# Altium footprint library Titan.PcbLib: 49 footprints (part 2 of 4)
Each footprint in its own frame and in the unit in brackets; x right, y up, seen from the top. Pads: shape width x height; smd on the part's side, far side on the other; paste and mask are expansions set on the pad; w line width, h text height; cw(c..) or ccw(c..) is an arc to the next point about the centre after c.
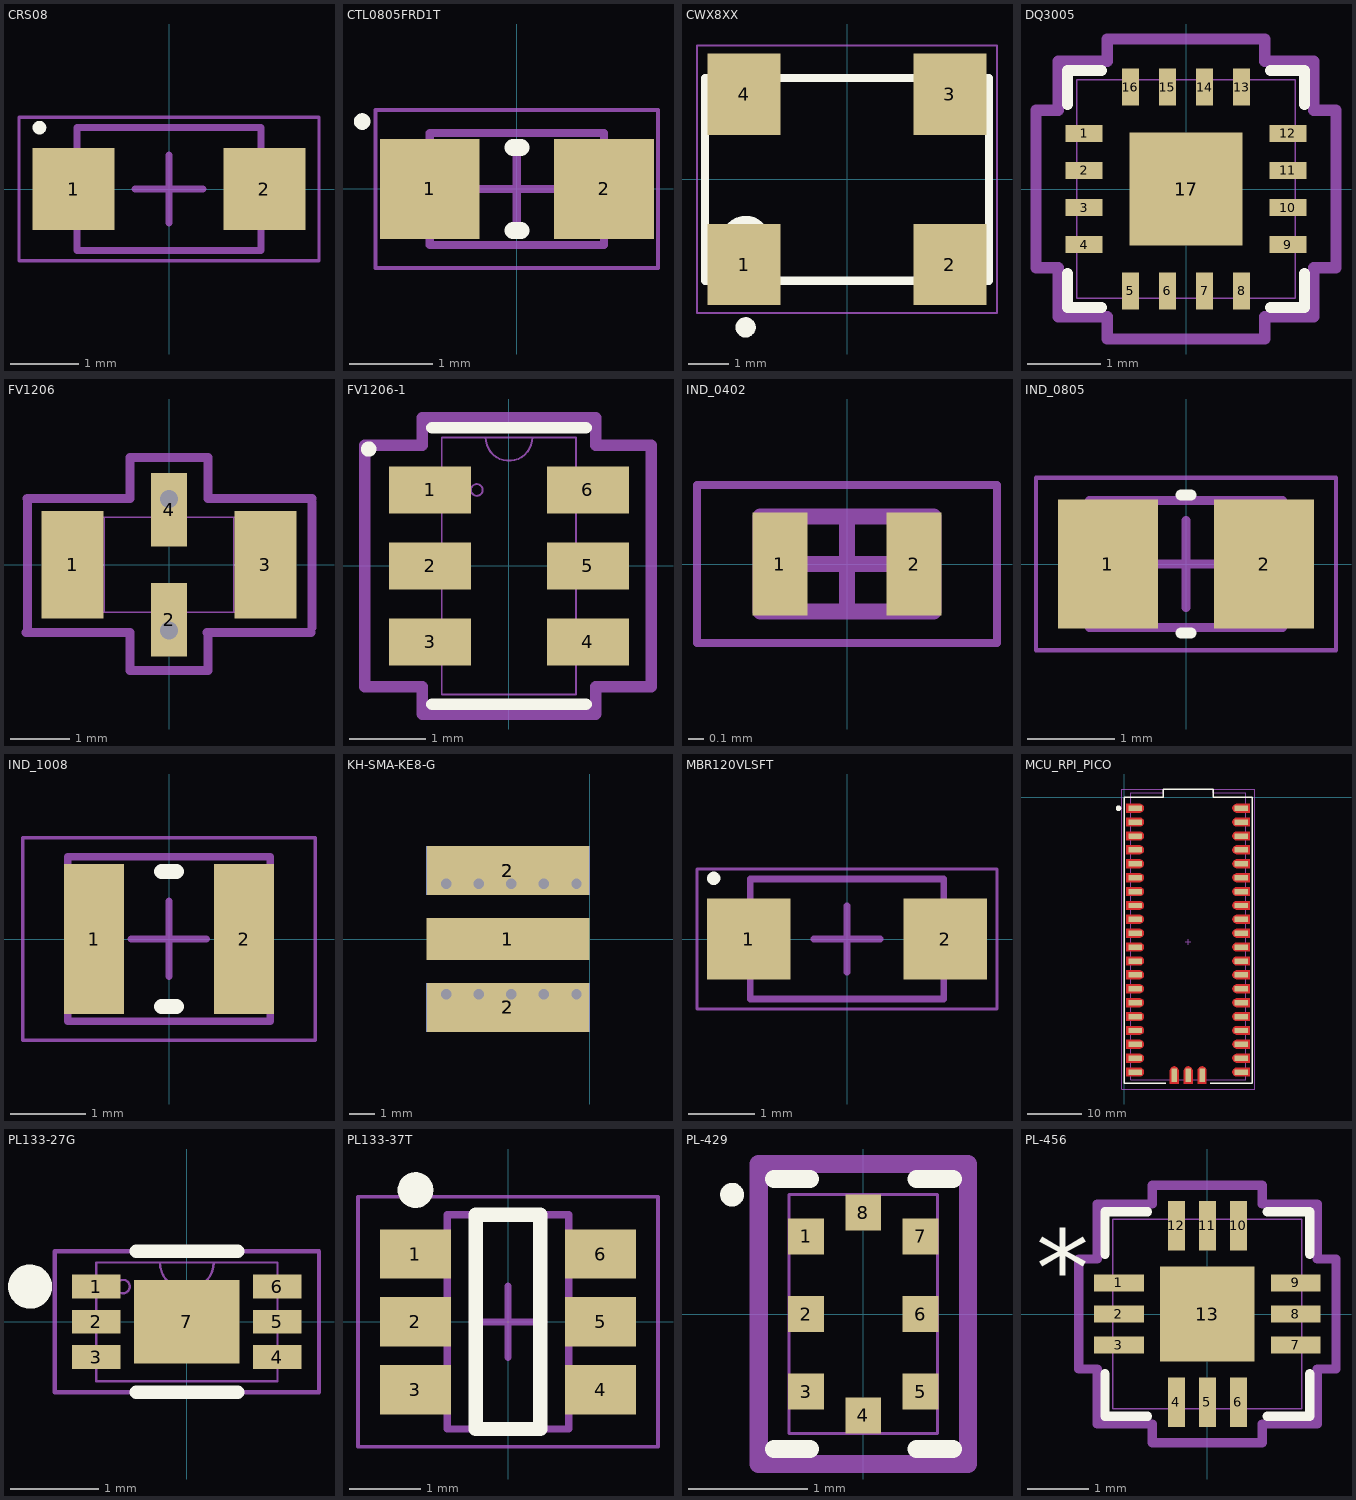
[diagram p1: the footprints below, top view; thin cyan lines are the x and y axes]

## CRS08 [mm] "SODFL, 2-Leads, Body 1.65x3.50mm, IPC Medium Density"
height 0.98
pads (2):
  rect 1.2x1.2 smd: 1(-1.4,0) 2(1.4,0)
Top Overlay:
  circle w0.1: c-1.9,0.9 r0.05
Mechanical 13:
  lines w0.1: -1.35,-0.9 -1.35,0.9 1.35,0.9 1.35,-0.9 -1.35,-0.9
Mechanical 15:
  lines w0.05: -2.2,-1.05 2.2,-1.05 2.2,1.05 -2.2,1.05 -2.2,-1.05
  lines w0.1: -0.5,0 0.5,0 ; 0,-0.5 0,0.5
3D body "CRS08.step": height 0.98, standoff 0, extent -1.75,-0.9 1.75,0.9

## CTL0805FRD1T [mm] "Chip Diode, 2-Leads, Body 2.00x1.25mm, IPC Medium Density"
height 0.9
pads (2):
  rect 1.2x1.2 smd: 1(-1.05,0) 2(1.05,0)
Top Overlay:
  circle w0.1: c-1.862,0.812 r0.05
  lines w0.2: -0.05,-0.5 0.05,-0.5 ; -0.05,0.5 0.05,0.5
Mechanical 13:
  lines w0.1: -1.05,-0.675 1.05,-0.675 1.05,0.675 -1.05,0.675 -1.05,-0.675
Mechanical 15:
  lines w0.05: -1.7,-0.95 1.7,-0.95 1.7,0.95 -1.7,0.95 -1.7,-0.95
  lines w0.1: -0.5,0 0.5,0 ; 0,-0.5 0,0.5
3D body "CTL0805FRD1T.step": height 0.9, standoff 0, extent -1.05,-0.675 1.05,0.675

## CWX8XX [mm] "5.0x7.0mm Surface Mount CMOS Clock Oscillator"
height 1.3
pads (4):
  rect 1.8x2 smd: 1(-2.54,-2.1) 2(2.54,-2.1) 3(2.54,2.1) 4(-2.54,2.1)
Top Overlay:
  circle w0.25: c-2.5,-3.65 r0.125
  circle w0.6: c-2.5,-1.5 r0.3
  lines w0.2: 3.5,-2.5 -3.5,-2.5 -3.5,2.5 3.5,2.5 3.5,0.937 3.5,-1.313 3.5,-2.438
Mechanical 13:
  lines w0.1: -3.5,-2.5 3.5,-2.5 3.5,2.5 -3.5,2.5 -3.5,-2.5
Mechanical 15:
  lines w0.05: -3.7,-3.3 -3.7,3.3 3.7,3.3 3.7,-3.3 -3.7,-3.3
3D body: height 1.3, standoff 0, extent -3.5,-2.5 3.5,2.5

## DQ3005 [mil]
height 35
pads (17):
  rect 20x9 smd: 1(-55,30) 2(-55,10) 3(-55,-10) 4(-55,-30) 9(55,-30) 10(55,-10) 11(55,10) 12(55,30)
  rect 9x20 smd: 5(-30,-55) 6(-10,-55) 7(10,-55) 8(30,-55) 13(30,55) 14(10,55) 15(-10,55) 16(-30,55)
  rect 61x61 smd: 17(0,0)
Top Overlay:
  lines w6: -64,-45.63 -64,-64 -45.63,-64 ; -64,45.63 -64,64 -45.63,64 ; 45.63,-64 64,-64 64,-45.63 ; 45.63,64 64,64 64,45.63
Mechanical 13:
  lines w1: -59,-59 -59,59 59,59 59,-59 -59,-59 ; -59,-33.53 -59,-25.53 -59,-33.53 ; -59,-13.84 -59,-5.84 -59,-13.84 ; -59,5.84 -59,13.84 -59,5.84 ; -59,25.53 -59,33.53 -59,25.53 ; -33.53,-59 -25.53,-59 -33.53,-59 ; -33.53,59 -25.53,59 -33.53,59 ; -13.84,-59 -5.84,-59 -13.84,-59 ; -13.84,59 -5.84,59 -13.84,59 ; 5.84,-59 13.84,-59 5.84,-59 ; 5.84,59 13.84,59 5.84,59 ; 25.53,-59 33.53,-59 25.53,-59 ; 25.53,59 33.53,59 25.53,59 ; 59,-33.53 59,-25.53 59,-33.53 ; 59,-13.84 59,-5.84 59,-13.84 ; 59,5.84 59,13.84 59,5.84 ; 59,25.53 59,33.53 59,25.53
Mechanical 15:
  lines w6: -81,-42.53 -81,42.53 -69,42.53 -69,69 -42.53,69 -42.53,81 42.53,81 42.53,69 69,69 69,42.53 81,42.53 81,-42.53 69,-42.53 69,-69 42.53,-69 42.53,-81 -42.53,-81 -42.53,-69 -69,-69 -69,-42.53 -81,-42.53
3D body "DQ3005.step": height 35.12, standoff 0, extent -59.02,-59.02 59.02,59.02

## FV1206 [mil]
height 37
pads (4):
  rect 41x71 smd: 1(-64,0) 3(64,0)
  rect 24x49 smd: 2(0,-36.5) 4(0,36.5)
via 0,43.5 diameter 20 hole 12
via 0,-43.5 diameter 20 hole 12
Mechanical 13:
  lines w1: -63,-31.5 -63,31.5 ; -63,-31.5 63,-31.5 ; -63,-31.5 -43,-31.5 -43,31.5 -63,31.5 ; -63,-31.5 -63,31.5 ; -63,31.5 63,31.5 ; 63,-31.5 63,31.5 ; 63,-31.5 63,31.5 ; 63,-31.5 43,-31.5 43,31.5 63,31.5
Mechanical 15:
  lines w6: -94.92,-45 -26.92,-45 ; -94,-41.5 -94,41.5 ; -94.02,44 -26.02,44 -26.02,71 25.98,71 25.98,44 94.98,44 ; -26,-45 -26,-70 26,-70 26,-45 ; 25.08,-45 94.08,-45 ; 95,-41.5 95,41.5
3D body "FV1206.step": height 37.01, standoff 0, extent -62.99,-31.5 62.99,31.5

## FV1206-1 [mil]
height 35
pads (6):
  rect 42x24 smd: 1(-40.5,39) 2(-40.5,0) 3(-40.5,-39) 4(40.5,-39) 5(40.5,0) 6(40.5,39)
Top Overlay:
  circle w3.94: c-72,60 r1.97
  lines w6: -39.5,-71 39.5,-71 ; -39.5,71 39.5,71
Mechanical 13:
  circle w1: c-16.5,39 r3
  lines w1: -12,66 ccw(c0,66) 12,66 ; -34.5,-66 34.5,-66 34.5,66 -34.5,66 -34.5,-66
Mechanical 15:
  lines w6: -74,-62 -74,62 -44.5,62 -44.5,76 44.5,76 44.5,62 73,62 73,-62 44.5,-62 44.5,-76 -44.5,-76 -44.5,-62 -74,-62
3D body "FV1206-1.step": height 42.09, standoff 0, extent -34.49,-65.98 34.49,65.98

## IND_0402 [mm] "Chip Inductor, 2-Leads, Body 1.00x0.50mm, IPC Medium Density"
height 0.6
pads (2):
  rect 0.35x0.65 smd: 1(-0.425,0) 2(0.425,0)
Mechanical 13:
  lines w0.1: -0.55,-0.3 0.55,-0.3 0.55,0.3 -0.55,0.3 -0.55,-0.3
Mechanical 15:
  lines w0.05: -0.95,-0.5 0.95,-0.5 0.95,0.5 -0.95,0.5 -0.95,-0.5
  lines w0.1: -0.3,0 0.3,0 ; 0,-0.3 0,0.3
3D body "IND_0402.step": height 0.6, standoff 0, extent -0.55,-0.3 0.55,0.3

## IND_0805 [mm] "Chip Inductor, 2-Leads, Body 2.00x1.25mm, IPC Medium Density"
height 1
pads (2):
  rect 1.14x1.47 smd: 1(-0.89,0) 2(0.89,0)
Top Overlay:
  lines w0.127: -0.056,-0.788 0.056,-0.788 ; -0.056,0.788 0.056,0.788
Top Courtyard:
  lines w0.05: -1.71,-0.985 1.71,-0.985 1.71,0.985 -1.71,0.985 -1.71,-0.985
Top Assembly:
  circle w0.125: c-0.625,0.25 r0.062
  lines w0.1: -1.1,-0.725 1.1,-0.725 1.1,0.725 -1.1,0.725 -1.1,-0.725
Top Component Center:
  lines w0.1: -0.5,0 0.5,0 ; 0,-0.5 0,0.5
3D body "IND_0805.step": height 1, standoff 0, extent -1,-0.625 1,0.625

## IND_1008 [mm] "Chip Inductor, 2-Leads, Body 2.50x2.00mm, IPC Medium Density"
height 1.2
pads (2):
  rect 0.8x2 smd: 1(-1,0) 2(1,0)
Top Overlay:
  lines w0.2: -0.1,-0.9 0.1,-0.9 ; -0.1,0.9 0.1,0.9
Mechanical 13:
  lines w0.1: -1.35,-1.1 -1.35,1.1 1.35,1.1 1.35,-1.1 -1.35,-1.1
Mechanical 15:
  lines w0.05: -1.95,-1.35 -1.95,1.35 1.95,1.35 1.95,-1.35 -1.95,-1.35
  lines w0.1: -0.5,0 0.5,0 ; 0,-0.5 0,0.5
3D body: height 1.2, standoff 0, extent -0.75,-1.1 0.75,1.1
3D body: height 1.2, standoff 0, extent -1.35,-1.1 -0.75,1.1
3D body: height 1.2, standoff 0, extent 0.75,-1.1 1.35,1.1

## KH-SMA-KE8-G [mil] "Connector RF SMA Edge Launch"
pads (5):
  rect 250x65 smd: 1(-125,0)
  rect 250x75 smd: 2(-125,-105) 2(-125,105)
  rect 250x75 smd far side: 2(-125,-105) 2(-125,105)
via -20,85 diameter 16 hole 16
via -70,85 diameter 16 hole 16
via -120,85 diameter 16 hole 16
via -170,85 diameter 16 hole 16
via -20,-85 diameter 16 hole 16
via -70,-85 diameter 16 hole 16
via -120,-85 diameter 16 hole 16
via -170,-85 diameter 16 hole 16
via -220,-85 diameter 16 hole 16
via -220,85 diameter 16 hole 16

## MBR120VLSFT [mm] "SODFL, 2-Leads, Body 1.65x3.60mm, IPC Medium Density"
height 0.98
pads (2):
  rect 1.25x1.22 smd: 1(-1.475,0) 2(1.475,0)
Top Overlay:
  circle w0.1: c-2,0.91 r0.05
Mechanical 13:
  lines w0.1: -1.45,-0.9 1.45,-0.9 1.45,0.9 -1.45,0.9 -1.45,-0.9
Mechanical 15:
  lines w0.05: -2.25,-1.05 2.25,-1.05 2.25,1.05 -2.25,1.05 -2.25,-1.05
  lines w0.1: -0.5,0 0.5,0 ; 0,-0.5 0,0.5
3D body "MBR120VLSFT.step": height 0.98, standoff 0, extent -1.8,-0.9 1.8,0.9

## MCU_RPI_PICO [mm] "Raspberry Pi Pico"
pads (43):
  rect 2.5x1 smd mask+0.102: 1(1.994,-2.001) 2(1.994,-4.541) 4(1.994,-9.621) 5(1.994,-12.161) 6(1.994,-14.701) 7(1.994,-17.241) 8(1.994,-19.781) 9(1.994,-22.321) 10(1.994,-24.861) 11(1.994,-27.401) 12(1.994,-29.941) 13(1.994,-32.481) 14(1.994,-35.021) 15(1.994,-37.561) 16(1.994,-40.101) 17(1.994,-42.641) 18(1.994,-45.181) 19(1.994,-47.721) 20(1.994,-50.261)
  rrect25% 2.5x1 smd mask+0.102: 3(1.994,-7.081)
  rect 2.5x1 smd: 21(21.374,-50.261) 22(21.374,-47.721) 23(21.374,-45.181) 24(21.374,-42.641) 25(21.374,-40.101) 26(21.374,-37.561) 27(21.374,-35.021) 28(21.374,-32.481) 29(21.374,-29.941) 30(21.374,-27.401) 31(21.374,-24.861) 32(21.374,-22.321) 33(21.374,-19.781) 34(21.374,-17.241) 35(21.374,-14.701) 36(21.374,-12.161) 37(21.374,-9.621) 38(21.374,-7.081) 39(21.374,-4.541) 40(21.374,-2.001)
  rect 1x2.5 smd: 41(9.144,-50.831) 42(11.684,-50.831) 43(14.224,-50.831)
Top Layer:
  region: 22.976,-51.045 22.976,-49.445 20.576,-49.445 20.471,-49.445 20.267,-49.5 20.085,-49.605 19.936,-49.754 19.831,-49.936 19.776,-50.14 19.776,-50.35 19.831,-50.554 19.936,-50.736 20.085,-50.885 20.267,-50.99 20.471,-51.045 20.576,-51.045
  region: 22.976,-48.505 22.976,-46.905 20.576,-46.905 20.471,-46.905 20.267,-46.96 20.085,-47.065 19.936,-47.214 19.831,-47.396 19.776,-47.6 19.776,-47.81 19.831,-48.014 19.936,-48.196 20.085,-48.345 20.267,-48.45 20.471,-48.505 20.576,-48.505
  region: 22.976,-45.965 22.976,-44.365 20.576,-44.365 20.471,-44.365 20.267,-44.42 20.085,-44.525 19.936,-44.674 19.831,-44.856 19.776,-45.06 19.776,-45.27 19.831,-45.474 19.936,-45.656 20.085,-45.805 20.267,-45.91 20.471,-45.965 20.576,-45.965
  region: 22.976,-43.425 22.976,-41.825 20.576,-41.825 20.471,-41.825 20.267,-41.88 20.085,-41.985 19.936,-42.134 19.831,-42.316 19.776,-42.52 19.776,-42.73 19.831,-42.934 19.936,-43.116 20.085,-43.265 20.267,-43.37 20.471,-43.425 20.576,-43.425
  region: 22.976,-40.885 22.976,-39.285 20.576,-39.285 20.471,-39.285 20.267,-39.34 20.085,-39.445 19.936,-39.594 19.831,-39.776 19.776,-39.98 19.776,-40.19 19.831,-40.394 19.936,-40.576 20.085,-40.725 20.267,-40.83 20.471,-40.885 20.576,-40.885
  region: 22.976,-38.345 22.976,-36.745 20.576,-36.745 20.471,-36.745 20.267,-36.8 20.085,-36.905 19.936,-37.054 19.831,-37.236 19.776,-37.44 19.776,-37.65 19.831,-37.854 19.936,-38.036 20.085,-38.185 20.267,-38.29 20.471,-38.345 20.576,-38.345
  region: 22.976,-35.805 22.976,-34.205 20.576,-34.205 20.471,-34.205 20.267,-34.26 20.085,-34.365 19.936,-34.514 19.831,-34.696 19.776,-34.9 19.776,-35.11 19.831,-35.314 19.936,-35.496 20.085,-35.645 20.267,-35.75 20.471,-35.805 20.576,-35.805
  region: 22.976,-33.265 22.976,-31.665 20.576,-31.665 20.471,-31.665 20.267,-31.72 20.085,-31.825 19.936,-31.974 19.831,-32.156 19.776,-32.36 19.776,-32.57 19.831,-32.774 19.936,-32.956 20.085,-33.105 20.267,-33.21 20.471,-33.265 20.576,-33.265
  region: 22.976,-30.725 22.976,-29.125 20.576,-29.125 20.471,-29.125 20.267,-29.18 20.085,-29.285 19.936,-29.434 19.831,-29.616 19.776,-29.82 19.776,-30.03 19.831,-30.234 19.936,-30.416 20.085,-30.565 20.267,-30.67 20.471,-30.725 20.576,-30.725
  region: 22.976,-28.185 22.976,-26.585 20.576,-26.585 20.471,-26.585 20.267,-26.64 20.085,-26.745 19.936,-26.894 19.831,-27.076 19.776,-27.28 19.776,-27.49 19.831,-27.694 19.936,-27.876 20.085,-28.025 20.267,-28.13 20.471,-28.185 20.576,-28.185
  region: 22.976,-25.645 22.976,-24.045 20.576,-24.045 20.471,-24.045 20.267,-24.1 20.085,-24.205 19.936,-24.354 19.831,-24.536 19.776,-24.74 19.776,-24.95 19.831,-25.154 19.936,-25.336 20.085,-25.485 20.267,-25.59 20.471,-25.645 20.576,-25.645
  region: 22.976,-23.105 22.976,-21.505 20.576,-21.505 20.471,-21.505 20.267,-21.56 20.085,-21.665 19.936,-21.814 19.831,-21.996 19.776,-22.2 19.776,-22.41 19.831,-22.614 19.936,-22.796 20.085,-22.945 20.267,-23.05 20.471,-23.105 20.576,-23.105
  region: 22.976,-20.565 22.976,-18.965 20.576,-18.965 20.471,-18.965 20.267,-19.02 20.085,-19.125 19.936,-19.274 19.831,-19.456 19.776,-19.66 19.776,-19.87 19.831,-20.074 19.936,-20.256 20.085,-20.405 20.267,-20.51 20.471,-20.565 20.576,-20.565
  region: 22.976,-18.025 22.976,-16.425 20.576,-16.425 20.471,-16.425 20.267,-16.48 20.085,-16.585 19.936,-16.734 19.831,-16.916 19.776,-17.12 19.776,-17.33 19.831,-17.534 19.936,-17.716 20.085,-17.865 20.267,-17.97 20.471,-18.025 20.576,-18.025
  region: 22.976,-15.485 22.976,-13.885 20.576,-13.885 20.471,-13.885 20.267,-13.94 20.085,-14.045 19.936,-14.194 19.831,-14.376 19.776,-14.58 19.776,-14.79 19.831,-14.994 19.936,-15.176 20.085,-15.325 20.267,-15.43 20.471,-15.485 20.576,-15.485
  region: 22.976,-12.945 22.976,-11.345 20.576,-11.345 20.471,-11.345 20.267,-11.4 20.085,-11.505 19.936,-11.654 19.831,-11.836 19.776,-12.04 19.776,-12.25 19.831,-12.454 19.936,-12.636 20.085,-12.785 20.267,-12.89 20.471,-12.945 20.576,-12.945
  region: 22.976,-10.405 22.976,-8.805 20.576,-8.805 20.471,-8.805 20.267,-8.86 20.085,-8.965 19.936,-9.114 19.831,-9.296 19.776,-9.5 19.776,-9.71 19.831,-9.914 19.936,-10.096 20.085,-10.245 20.267,-10.35 20.471,-10.405 20.576,-10.405
  region: 22.976,-7.865 22.976,-6.265 20.576,-6.265 20.471,-6.265 20.267,-6.32 20.085,-6.425 19.936,-6.574 19.831,-6.756 19.776,-6.96 19.776,-7.17 19.831,-7.374 19.936,-7.556 20.085,-7.705 20.267,-7.81 20.471,-7.865 20.576,-7.865
  region: 22.976,-5.325 22.976,-3.725 20.576,-3.725 20.471,-3.725 20.267,-3.78 20.085,-3.885 19.936,-4.034 19.831,-4.216 19.776,-4.42 19.776,-4.63 19.831,-4.834 19.936,-5.016 20.085,-5.165 20.267,-5.27 20.471,-5.325 20.576,-5.325
  region: 22.976,-2.785 22.976,-1.185 20.576,-1.185 20.471,-1.185 20.267,-1.24 20.085,-1.345 19.936,-1.494 19.831,-1.676 19.776,-1.88 19.776,-2.09 19.831,-2.294 19.936,-2.476 20.085,-2.625 20.267,-2.73 20.471,-2.785 20.576,-2.785
  region: 0.392,-2.785 0.392,-1.185 2.792,-1.185 2.897,-1.185 3.101,-1.24 3.283,-1.345 3.432,-1.494 3.537,-1.676 3.592,-1.88 3.592,-2.09 3.537,-2.294 3.432,-2.476 3.283,-2.625 3.101,-2.73 2.897,-2.785 2.792,-2.785
  region: 0.392,-5.325 0.392,-3.725 2.792,-3.725 2.897,-3.725 3.101,-3.78 3.283,-3.885 3.432,-4.034 3.537,-4.216 3.592,-4.42 3.592,-4.63 3.537,-4.834 3.432,-5.016 3.283,-5.165 3.101,-5.27 2.897,-5.325 2.792,-5.325
  region: 0.392,-7.865 0.392,-6.265 2.792,-6.265 2.897,-6.265 3.101,-6.32 3.283,-6.425 3.432,-6.574 3.537,-6.756 3.592,-6.96 3.592,-7.17 3.537,-7.374 3.432,-7.556 3.283,-7.705 3.101,-7.81 2.897,-7.865 2.792,-7.865
  region: 0.392,-10.405 0.392,-8.805 2.792,-8.805 2.897,-8.805 3.101,-8.86 3.283,-8.965 3.432,-9.114 3.537,-9.296 3.592,-9.5 3.592,-9.71 3.537,-9.914 3.432,-10.096 3.283,-10.245 3.101,-10.35 2.897,-10.405 2.792,-10.405
  region: 0.392,-12.945 0.392,-11.345 2.792,-11.345 2.897,-11.345 3.101,-11.4 3.283,-11.505 3.432,-11.654 3.537,-11.836 3.592,-12.04 3.592,-12.25 3.537,-12.454 3.432,-12.636 3.283,-12.785 3.101,-12.89 2.897,-12.945 2.792,-12.945
  region: 0.392,-15.485 0.392,-13.885 2.792,-13.885 2.897,-13.885 3.101,-13.94 3.283,-14.045 3.432,-14.194 3.537,-14.376 3.592,-14.58 3.592,-14.79 3.537,-14.994 3.432,-15.176 3.283,-15.325 3.101,-15.43 2.897,-15.485 2.792,-15.485
  region: 0.392,-18.025 0.392,-16.425 2.792,-16.425 2.897,-16.425 3.101,-16.48 3.283,-16.585 3.432,-16.734 3.537,-16.916 3.592,-17.12 3.592,-17.33 3.537,-17.534 3.432,-17.716 3.283,-17.865 3.101,-17.97 2.897,-18.025 2.792,-18.025
  region: 0.392,-20.565 0.392,-18.965 2.792,-18.965 2.897,-18.965 3.101,-19.02 3.283,-19.125 3.432,-19.274 3.537,-19.456 3.592,-19.66 3.592,-19.87 3.537,-20.074 3.432,-20.256 3.283,-20.405 3.101,-20.51 2.897,-20.565 2.792,-20.565
  region: 0.392,-23.105 0.392,-21.505 2.792,-21.505 2.897,-21.505 3.101,-21.56 3.283,-21.665 3.432,-21.814 3.537,-21.996 3.592,-22.2 3.592,-22.41 3.537,-22.614 3.432,-22.796 3.283,-22.945 3.101,-23.05 2.897,-23.105 2.792,-23.105
  region: 0.392,-25.645 0.392,-24.045 2.792,-24.045 2.897,-24.045 3.101,-24.1 3.283,-24.205 3.432,-24.354 3.537,-24.536 3.592,-24.74 3.592,-24.95 3.537,-25.154 3.432,-25.336 3.283,-25.485 3.101,-25.59 2.897,-25.645 2.792,-25.645
  region: 0.392,-28.185 0.392,-26.585 2.792,-26.585 2.897,-26.585 3.101,-26.64 3.283,-26.745 3.432,-26.894 3.537,-27.076 3.592,-27.28 3.592,-27.49 3.537,-27.694 3.432,-27.876 3.283,-28.025 3.101,-28.13 2.897,-28.185 2.792,-28.185
  region: 0.392,-30.725 0.392,-29.125 2.792,-29.125 2.897,-29.125 3.101,-29.18 3.283,-29.285 3.432,-29.434 3.537,-29.616 3.592,-29.82 3.592,-30.03 3.537,-30.234 3.432,-30.416 3.283,-30.565 3.101,-30.67 2.897,-30.725 2.792,-30.725
  region: 0.392,-33.265 0.392,-31.665 2.792,-31.665 2.897,-31.665 3.101,-31.72 3.283,-31.825 3.432,-31.974 3.537,-32.156 3.592,-32.36 3.592,-32.57 3.537,-32.774 3.432,-32.956 3.283,-33.105 3.101,-33.21 2.897,-33.265 2.792,-33.265
  region: 0.392,-35.805 0.392,-34.205 2.792,-34.205 2.897,-34.205 3.101,-34.26 3.283,-34.365 3.432,-34.514 3.537,-34.696 3.592,-34.9 3.592,-35.11 3.537,-35.314 3.432,-35.496 3.283,-35.645 3.101,-35.75 2.897,-35.805 2.792,-35.805
  region: 0.392,-38.345 0.392,-36.745 2.792,-36.745 2.897,-36.745 3.101,-36.8 3.283,-36.905 3.432,-37.054 3.537,-37.236 3.592,-37.44 3.592,-37.65 3.537,-37.854 3.432,-38.036 3.283,-38.185 3.101,-38.29 2.897,-38.345 2.792,-38.345
  region: 0.392,-40.885 0.392,-39.285 2.792,-39.285 2.897,-39.285 3.101,-39.34 3.283,-39.445 3.432,-39.594 3.537,-39.776 3.592,-39.98 3.592,-40.19 3.537,-40.394 3.432,-40.576 3.283,-40.725 3.101,-40.83 2.897,-40.885 2.792,-40.885
  region: 0.392,-43.425 0.392,-41.825 2.792,-41.825 2.897,-41.825 3.101,-41.88 3.283,-41.985 3.432,-42.134 3.537,-42.316 3.592,-42.52 3.592,-42.73 3.537,-42.934 3.432,-43.116 3.283,-43.265 3.101,-43.37 2.897,-43.425 2.792,-43.425
  region: 0.392,-45.965 0.392,-44.365 2.792,-44.365 2.897,-44.365 3.101,-44.42 3.283,-44.525 3.432,-44.674 3.537,-44.856 3.592,-45.06 3.592,-45.27 3.537,-45.474 3.432,-45.656 3.283,-45.805 3.101,-45.91 2.897,-45.965 2.792,-45.965
  region: 0.392,-48.505 0.392,-46.905 2.792,-46.905 2.897,-46.905 3.101,-46.96 3.283,-47.065 3.432,-47.214 3.537,-47.396 3.592,-47.6 3.592,-47.81 3.537,-48.014 3.432,-48.196 3.283,-48.345 3.101,-48.45 2.897,-48.505 2.792,-48.505
  region: 0.392,-51.045 0.392,-49.445 2.792,-49.445 2.897,-49.445 3.101,-49.5 3.283,-49.605 3.432,-49.754 3.537,-49.936 3.592,-50.14 3.592,-50.35 3.537,-50.554 3.432,-50.736 3.283,-50.885 3.101,-50.99 2.897,-51.045 2.792,-51.045
  region: 15.024,-52.415 13.424,-52.415 13.424,-50.015 13.424,-49.91 13.479,-49.706 13.584,-49.524 13.733,-49.375 13.915,-49.27 14.119,-49.215 14.329,-49.215 14.533,-49.27 14.715,-49.375 14.864,-49.524 14.969,-49.706 15.024,-49.91 15.024,-50.015
  region: 12.484,-52.415 10.884,-52.415 10.884,-50.015 10.884,-49.91 10.939,-49.706 11.044,-49.524 11.193,-49.375 11.375,-49.27 11.579,-49.215 11.789,-49.215 11.993,-49.27 12.175,-49.375 12.324,-49.524 12.429,-49.706 12.484,-49.91 12.484,-50.015
  region: 9.944,-52.415 8.344,-52.415 8.344,-50.015 8.344,-49.91 8.399,-49.706 8.504,-49.524 8.653,-49.375 8.835,-49.27 9.039,-49.215 9.249,-49.215 9.453,-49.27 9.635,-49.375 9.784,-49.524 9.889,-49.706 9.944,-49.91 9.944,-50.015
Top Overlay:
  circle w0.508: c-1.054,-2.001 r0.254
  lines w0.254: 7.582,-52.293 0,-52.293 0,0 7.112,0 7.112,1.524 16.256,1.524 16.256,0 23.368,0 23.368,-52.293 15.71,-52.293
Mechanical 13:
  lines w0.1: 1.194,-51.624 22.194,-51.624 22.194,0.802 16.256,0.802 16.256,1.524 8.636,1.524 7.112,1.524 7.112,0.802 1.194,0.802 1.194,-51.624
Mechanical 15:
  lines w0.05: 11.184,-26.416 12.184,-26.416 ; 11.684,-26.916 11.684,-25.916 ; -0.508,-53.34 23.876,-53.34 23.876,1.524 -0.508,1.524 -0.508,-53.34
3D body "RP-006426-DD-A-Raspberry Pi Pico 2 3D CAD Model R5 24 07 24.step": height 3.73, standoff 0, extent 1.194,-51.624 22.194,0.676

## PL133-27G [mm] "Low-Power, 1.62V to 3.63V, 1:2 Inverting Fanout Buffer IC"
height 0.6
pads (7):
  rect 0.55x0.27 smd mask-2539.97: 1(-1.026,0.4) 2(-1.026,0) 3(-1.026,-0.4) 4(1.026,-0.4) 5(1.026,0) 6(1.026,0.4)
  rect 1.2x0.95 smd mask-2539.97: 7(0,0)
Top Overlay:
  circle w0.25: c-1.779,0.4 r0.125
  lines w0.152: -0.576,-0.8 0.576,-0.8 ; -0.576,0.8 0.576,0.8
Top Solder:
  region: 0.751,-0.535 0.751,-0.265 1.151,-0.265 1.151,-0.535
  region: 0.751,-0.135 0.751,0.135 1.151,0.135 1.151,-0.135
  region: 0.751,0.265 0.751,0.535 1.151,0.535 1.151,0.265
  region: -1.151,0.265 -1.151,0.535 -0.751,0.535 -0.751,0.265
  region: -1.151,-0.135 -1.151,0.135 -0.751,0.135 -0.751,-0.135
  region: -1.151,-0.535 -1.151,-0.265 -0.751,-0.265 -0.751,-0.535
  region: -0.4,-0.275 -0.4,0.275 0.4,0.275 0.4,-0.275
Mechanical 13:
  circle w0.025: c-0.724,0.4 r0.076
  lines w0.025: -0.305,0.673 ccw(c0,0.673) 0.305,0.673 ; -1.029,-0.673 -1.029,0.673 1.029,0.673 1.029,-0.673 -1.029,-0.673
Mechanical 15:
  lines w0.05: -1.5,-0.8 1.5,-0.8 1.5,0.8 -1.5,0.8 -1.5,-0.8
3D body "TDFN2013-6LD-PL-1_MCH.step": height 0.61, standoff 0, extent -1.029,-0.673 1.029,0.673

## PL133-37T [mm] "Low-Power, 1.62V to 3.63V, 1 MHz to 150 MHz, Inverting 1:3 Fanout Buffer IC"
height 1.45
pads (6):
  rect 0.99x0.69 smd: 1(-1.295,0.95) 2(-1.295,0) 3(-1.295,-0.95) 4(1.295,-0.95) 5(1.295,0) 6(1.295,0.95)
Top Overlay:
  circle w0.25: c-1.295,1.845 r0.125
  lines w0.2: -0.45,-1.5 0.45,-1.5 0.45,1.5 -0.45,1.5 -0.45,-1.5
Mechanical 13:
  lines w0.1: -0.85,-1.5 -0.85,1.5 0.85,1.5 0.85,-1.5 -0.85,-1.5
Mechanical 15:
  lines w0.05: -2.1,-1.75 -2.1,1.75 2.1,1.75 2.1,-1.75 -2.1,-1.75
  lines w0.1: -0.5,0 0.5,0 ; 0,-0.5 0,0.5
3D body "PL133-37T.step": height 1.45, standoff 0, extent -1.5,-1.5 1.5,1.5

## PL-429 [mm]
pads (8):
  rect 0.3x0.3 smd: 1(-0.48,0.65) 2(-0.48,0) 3(-0.48,-0.65) 4(0,-0.85) 5(0.48,-0.65) 6(0.48,0) 7(0.48,0.65) 8(0,0.85)
Top Overlay:
  circle w0.1: c-1.1,1 r0.05
  lines w0.152: -0.749,-1.13 -0.447,-1.13 ; -0.749,1.13 -0.447,1.13 ; 0.447,-1.13 0.749,-1.13 ; 0.447,1.13 0.749,1.13
Mechanical 13:
  lines w0.025: -0.622,-1.003 -0.622,1.003 0.622,1.003 0.622,-1.003 -0.622,-1.003 ; -0.622,-0.8 -0.622,-0.521 -0.622,-0.8 ; -0.622,-0.14 -0.622,0.14 -0.622,-0.14 ; -0.622,0.521 -0.622,0.8 -0.622,0.521 ; -0.14,-1.003 0.14,-1.003 -0.14,-1.003 ; -0.14,1.003 0.14,1.003 -0.14,1.003 ; 0.622,-0.8 0.622,-0.521 0.622,-0.8 ; 0.622,-0.14 0.622,0.14 0.622,-0.14 ; 0.622,0.521 0.622,0.8 0.622,0.521
Mechanical 15:
  lines w0.152: -0.876,-1.257 -0.368,-1.257 0.368,-1.257 0.876,-1.257 0.876,-1.029 0.876,1.029 0.876,1.257 0.368,1.257 -0.368,1.257 -0.876,1.257 -0.876,1.029 -0.876,-1.029 -0.876,-1.257
3D body "PL-429.step": height 0.94, standoff 0, extent -0.622,-1.003 0.622,1.003

## PL-456 [mil]
pads (13):
  rect 32x11 smd paste+0 mask+0: 1(-57,20) 2(-57,0) 3(-57,-20) 7(57,-20) 8(57,0) 9(57,20)
  rect 11x32 smd paste+0 mask+0: 4(-20,-57) 5(0,-57) 6(20,-57) 10(20,57) 11(0,57) 12(-20,57)
  rect 61x61 smd paste+0 mask+0: 13(0,0)
Top Overlay:
  lines w6: -66,-38.6 -66,-66 -38.6,-66 ; -66,38.6 -66,66 -38.6,66 ; 38.6,-66 66,-66 66,-38.6 ; 38.6,66 66,66 66,38.6
  text "*" at -110.5,5 h50
Mechanical 13:
  lines w1: -61,-61 -61,61 -30.5,61 30.5,61 61,61 61,-61 -61,-61 ; -61,-26.5 -61,-13.5 -61,-26.5 ; -61,-6.5 -61,6.5 -61,-6.5 ; -61,13.5 -61,26.5 -61,13.5 ; -26.5,-61 -13.5,-61 -26.5,-61 ; -26.5,61 -13.5,61 -26.5,61 ; -6.5,-61 6.5,-61 -6.5,-61 ; -6.5,61 6.5,61 -6.5,61 ; 13.5,-61 26.5,-61 13.5,-61 ; 13.5,61 26.5,61 13.5,61 ; 61,-26.5 61,-13.5 61,-26.5 ; 61,-6.5 61,6.5 61,-6.5 ; 61,13.5 61,26.5 61,13.5
Mechanical 15:
  lines w6: -83,-35.5 -83,35.5 -71,35.5 -71,71 -35.5,71 -35.5,83 35.5,83 35.5,71 71,71 71,35.5 83,35.5 83,-35.5 71,-35.5 71,-71 35.5,-71 35.5,-83 -35.5,-83 -35.5,-71 -71,-71 -71,-35.5 -83,-35.5
3D body "DQ1225_MNC.step": height 35.12, standoff 0, extent -59.02,-59.02 59.02,59.02